# Altium footprint library PCB - LEADLESS - SON - TI PWSON-10 DPR.PCBLIB: 1 footprints
Each footprint in its own frame and in the unit in brackets; x right, y up, seen from the top. Pads: shape width x height; smd on the part's side, far side on the other; paste and mask are expansions set on the pad; w line width, h text height; cw(c..) or ccw(c..) is an arc to the next point about the centre after c.
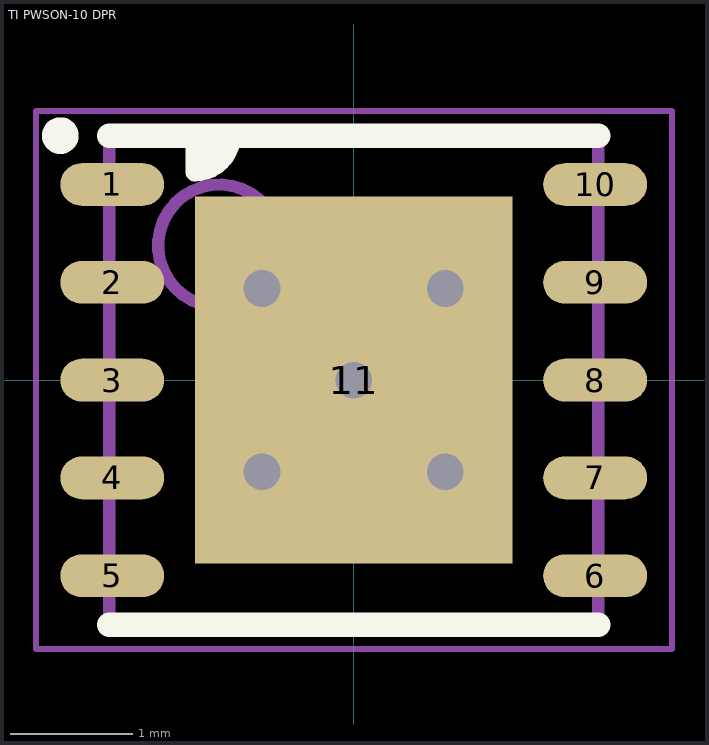
[diagram p0: the footprint, top view; thin cyan lines are the x and y axes]

## TI PWSON-10 DPR [mm] "SON, 10-Leads, Body 4.0x4.00mm, Pitch 0.80mm, Thermal Pad 3.00x2.6mm, IPC Medium Density"
height 0.8
pads (11):
  oval 0.85x0.35 smd mask+0.07: 1(-1.975,1.6) 2(-1.975,0.8) 3(-1.975,0) 4(-1.975,-0.8) 5(-1.975,-1.6) 6(1.975,-1.6) 7(1.975,-0.8) 8(1.975,0) 9(1.975,0.8) 10(1.975,1.6)
  rect 2.6x3 smd paste-1.17 mask+0.07: 11(0,0)
via 0,0 diameter 0.6 hole 0.3
via 0.75,0.75 diameter 0.6 hole 0.3
via -0.75,0.75 diameter 0.6 hole 0.3
via -0.75,-0.75 diameter 0.6 hole 0.3
via 0.75,-0.75 diameter 0.6 hole 0.3
Top Overlay:
  circle w0.2: c-2.4,2 r0.05
  region: -1.3,2 -1,2 -1,1.9 -1.2,1.7 -1.3,1.7
  lines w0.15: -1,2 ccw(c-1,2) -1,2 ; -1,2 cw(c-1.3,2) -1.3,1.7 -1.3,2 -1,2
  lines w0.2: -2,-2 2,-2 ; -2,2 2,2
Top Paste:
  rectangle: 0.15,-1.3 1.3,-0.15
  rectangle: 0.15,0.15 1.3,1.3
  rectangle: -1.3,-1.3 -0.15,-0.15
  rectangle: -1.3,0.15 -0.15,1.3
Mechanical 13:
  circle w0.1: c-1.1,1.1 r0.5
  lines w0.1: -2,-2 2,-2 2,2 -2,2 -2,-2
Mechanical 15:
  lines w0.05: -2.6,-2.2 2.605,-2.2 2.605,2.2 -2.6,2.2 -2.6,-2.2
  lines w0.1: -0.5,0 0.5,0 ; 0,-0.5 0,0.5
3D body "SON80P400X80_HS-11N.step": height 0.8, standoff 0, extent -2.05,-2 2.05,2